# EAGLE library part CPU_CON (library _block)
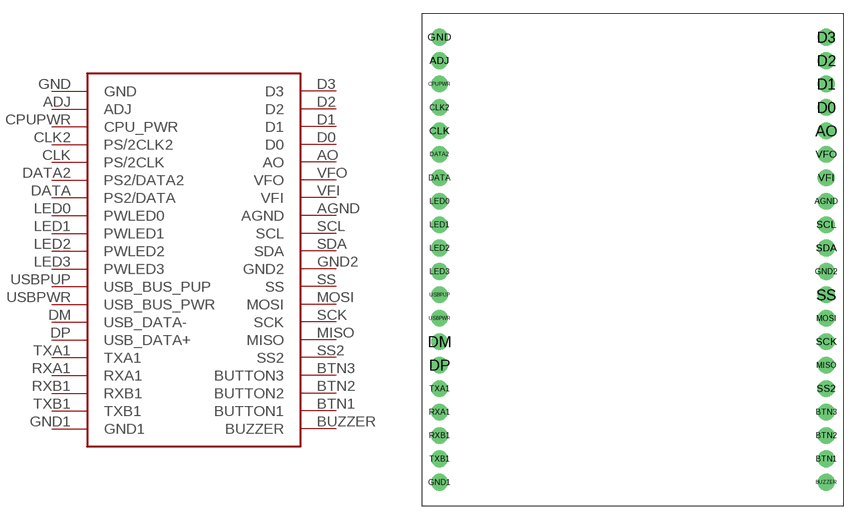
[diagram p1: symbol with the pads of CPU_SHIELD; footprint CPU_SHIELD]

Designator prefix -

## CPU_CON  [CPU_SHIELD]
ADJ  ADJ
AGND  AGND
AO  AO
BTN1  BUTTON1
BTN2  BUTTON2
BTN3  BUTTON3
BUZZER  BUZZER
CLK  PS/2CLK
CLK2  PS/2CLK2
CPUPWR  CPU_PWR
D0  D0
D1  D1
D2  D2
D3  D3
DATA  PS2/DATA
DATA2  PS2/DATA2
DM  USB_DATA-
DP  USB_DATA+
GND  GND
GND1  GND1
GND2  GND2
LED0  PWLED0
LED1  PWLED1
LED2  PWLED2
LED3  PWLED3
MISO  MISO
MOSI  MOSI
RXA1  RXA1
RXB1  RXB1
SCK  SCK
SCL  SCL
SDA  SDA
SS  SS
SS2  SS2
TXA1  TXA1
TXB1  TXB1
USBPUP  USB_BUS_PUP
USBPWR  USB_BUS_PWR
VFI  VFI
VFO  VFO

## Footprint CPU_SHIELD (pad centres in mm)
drill 1 pad 1.8 round: ADJ 0,-2.54; AGND 41.91,-17.78; AO 41.91,-10.16; BTN1 41.91,-45.72; BTN2 41.91,-43.18; BTN3 41.91,-40.64; BUZZER 41.91,-48.26; CLK 0,-10.16; CLK2 0,-7.62; CPUPWR 0,-5.08; D0 41.91,-7.62; D1 41.91,-5.08; D2 41.91,-2.54; D3 41.91,0; DATA 0,-15.24; DATA2 0,-12.7; DM 0,-33.02; DP 0,-35.56; GND 0,0; GND1 0,-48.26; GND2 41.91,-25.4; LED0 0,-17.78; LED1 0,-20.32; LED2 0,-22.86; LED3 0,-25.4; MISO 41.91,-35.56; MOSI 41.91,-30.48; RXA1 0,-40.64; RXB1 0,-43.18; SCK 41.91,-33.02; SCL 41.91,-20.32; SDA 41.91,-22.86; SS 41.91,-27.94; SS2 41.91,-38.1; TXA1 0,-38.1; TXB1 0,-45.72; USBPUP 0,-27.94; USBPWR 0,-30.48; VFI 41.91,-15.24; VFO 41.91,-12.7